# Altium footprint library SOIC127P600X175-14N.PcbLib: 1 footprints
Each footprint in its own frame and in the unit in brackets; x right, y up, seen from the top. Pads: shape width x height; smd on the part's side, far side on the other; paste and mask are expansions set on the pad; w line width, h text height; cw(c..) or ccw(c..) is an arc to the next point about the centre after c.
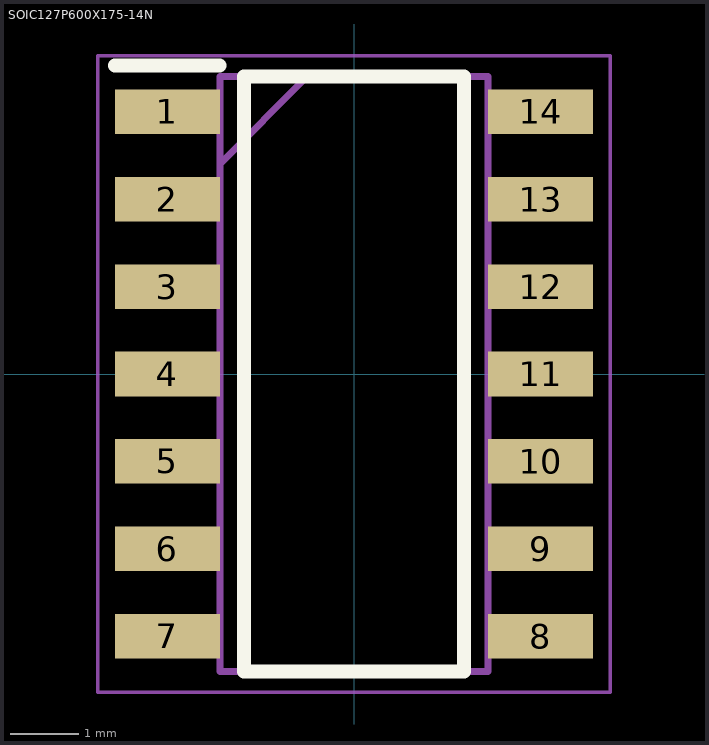
[diagram p0: the footprint, top view; thin cyan lines are the x and y axes]

## SOIC127P600X175-14N [mm]
pads (14):
  rect 1.525x0.65 smd: 1(-2.712,3.81) 2(-2.712,2.54) 3(-2.712,1.27) 4(-2.712,0) 5(-2.712,-1.27) 6(-2.712,-2.54) 7(-2.712,-3.81) 8(2.712,-3.81) 9(2.712,-2.54) 10(2.712,-1.27) 11(2.712,0) 12(2.712,1.27) 13(2.712,2.54) 14(2.712,3.81)
Top Overlay:
  lines w0.2: -3.475,4.485 -1.95,4.485 ; -1.6,-4.325 1.6,-4.325 1.6,4.325 -1.6,4.325 -1.6,-4.325
Mechanical 15:
  lines w0.1: -1.95,3.055 -0.68,4.325 ; -1.95,-4.325 1.95,-4.325 1.95,4.325 -1.95,4.325 -1.95,-4.325
Mechanical 20:
  lines w0.05: -3.725,-4.625 3.725,-4.625 3.725,4.625 -3.725,4.625 -3.725,-4.625